# Altium footprint library PcbLib1.PcbLib: 6 footprints
Each footprint in its own frame and in the unit in brackets; x right, y up, seen from the top. Pads: shape width x height; smd on the part's side, far side on the other; paste and mask are expansions set on the pad; w line width, h text height; cw(c..) or ccw(c..) is an arc to the next point about the centre after c.
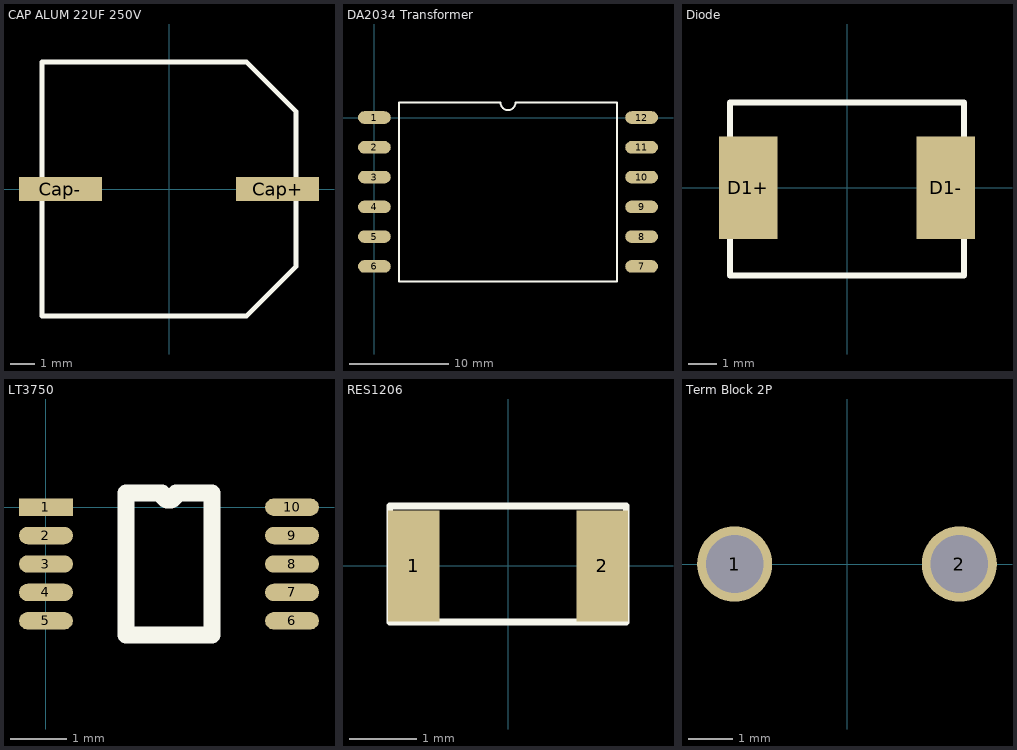
[diagram p0: the footprints below, top view; thin cyan lines are the x and y axes]

## CAP ALUM 22UF 250V [mm] "22uF"
pads (2):
  rect 3.4x1 smd: Cap+(4.445,0) Cap-(-4.445,0)
Top Overlay:
  lines w0.2: -5.2,-5.2 3.182,-5.2 5.2,-3.182 5.2,3.182 3.182,5.2 -5.2,5.2 -5.2,-5.2
3D body: height 4.5, standoff -4.5, extent -7.747,5.461 -7.747,5.461
3D body: height 4.5, standoff -4.5, extent -8.636,5.207 -8.636,5.207
3D body "User Library-cap_10x10x10-1.STEP": height 10.3, standoff -0.2, extent -5.899,-5.25 5.901,5.25

## DA2034 Transformer [mm]
pads (12):
  oval 3.3x1.27 smd: 1(0,0) 2(0,-3) 3(0,-6) 4(0,-9) 5(0,-12) 6(0,-15) 7(26.92,-15) 8(26.92,-12) 9(26.92,-9) 10(26.92,-6) 11(26.92,-3) 12(26.92,0)
Top Overlay:
  lines w0.2: 2.485,-16.5 2.485,1.5 12.71,1.5 ccw(c13.46,1.5) 14.21,1.5 24.435,1.5 24.435,-16.5 2.485,-16.5
3D body "Coilcraft-DA2034-AL.STEP": height 11.18, standoff -0.25, extent -0.863,-17.778 27.787,2.792

## Diode [mil]
pads (2):
  rect 80x140 smd: D1+(-135,0) D1-(135,0)
Top Overlay:
  lines w7.87: -160,-120 -160,30.67 -160,116.15 160,116.15 160,-120 -160,-120
3D body "User Library-DO-214AB-SMC.STEP": height 94.53, standoff -1.97, extent -153.54,-116.13 153.55,116.15

## LT3750 [mm]
pads (10):
  rect 0.95x0.305 smd: 1(0,0)
  oval 0.95x0.305 smd: 2(0,-0.5) 3(0,-1) 4(0,-1.5) 5(0,-2) 6(4.33,-2) 7(4.33,-1.5) 8(4.33,-1) 9(4.33,-0.5) 10(4.33,0)
Top Overlay:
  lines w0.3: 1.41,-2.25 1.41,0.25 2.04,0.25 ccw(c2.165,0.25) 2.29,0.25 2.92,0.25 2.92,-2.25 1.41,-2.25
3D body "User Library-msop-10.STEP": height 1.15, standoff 0, extent -0.291,-2.516 4.609,0.484

## RES1206 [mil]
pads (2):
  rect 30x65 smd: 1(-55,0) 2(55,0)
Top Overlay:
  lines w3.94: -69,-32.67 -69,16 -69,35 -20.55,35 60.55,35 69,35 69,12.08 69,-9.76 69,-32.67 -69,-32.67
3D body "SW3DPS-RESISTOR 1206-DEFAULT.STEP": height 20.87, standoff -1.18, extent -62.98,-32.67 63,32.68

## Term Block 2P [mm]
pads (2):
  round 1.7 hole 1.3: 1(-2.54,0) 2(2.54,0)
3D body "DG301-5.0-02.stp": height 10, standoff -4.4, extent -5.64,-3.1 4.96,4.5